# Altium schematic symbol library HOLDER 18650X2.SchLib: 1 symbol
Pins are listed as number, name and electrical type; pins without a type are passive.

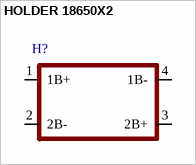
[diagram p0: symbol HOLDER 18650X2]

## HOLDER 18650X2
designator H?
footprint HOLDER 18650X2
pins: 1 1B+, 2 2B-, 3 2B+, 4 1B-